# EAGLE library part M4-192T144 (library amd-mach)
AMD MACH SERIES
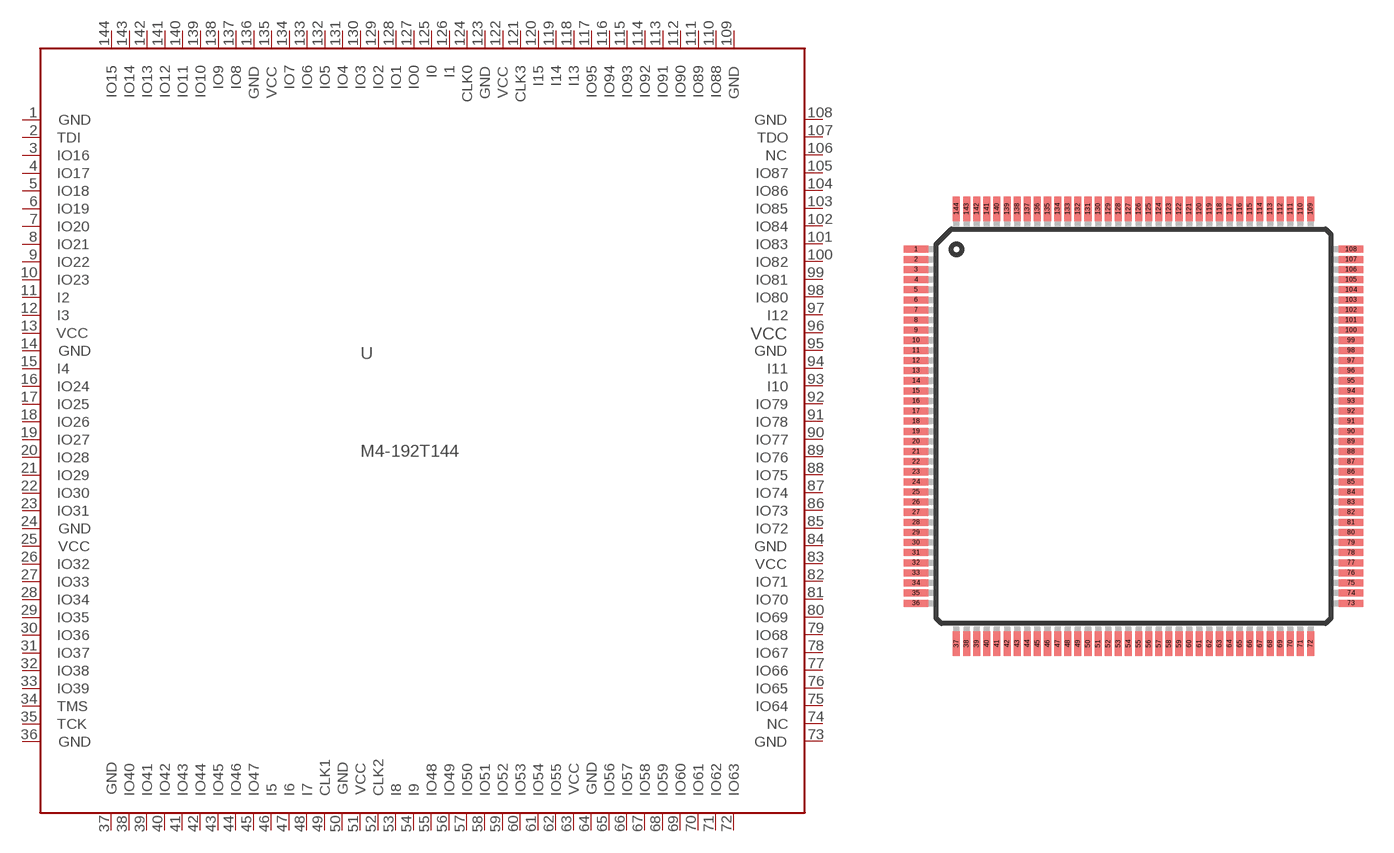
[diagram p6: symbol with the pads of TQFP144; footprint TQFP144]

Designator prefix U

## M4-192T144  [TQFP144]
1  GND  pwr
2  TDI  in
3  IO16
4  IO17
5  IO18
6  IO19
7  IO20
8  IO21
9  IO22
10  IO23
11  I2  in
12  I3  in
13  VCC  pwr
14  GND  pwr
15  I4  in
16  IO24
17  IO25
18  IO26
19  IO27
20  IO28
21  IO29
22  IO30
23  IO31
24  GND  pwr
25  VCC  pwr
26  IO32
27  IO33
28  IO34
29  IO35
30  IO36
31  IO37
32  IO38
33  IO39
34  TMS  in
35  TCK  in
36  GND  pwr
37  GND  pwr
38  IO40
39  IO41
40  IO42
41  IO43
42  IO44
43  IO45
44  IO46
45  IO47
46  I5  in
47  I6  in
48  I7  in
49  CLK1  in
50  GND  pwr
51  VCC  pwr
52  CLK2  in
53  I8  in
54  I9  in
55  IO48
56  IO49
57  IO50
58  IO51
59  IO52
60  IO53
61  IO54
62  IO55
63  VCC  pwr
64  GND  pwr
65  IO56
66  IO57
67  IO58
68  IO59
69  IO60
70  IO61
71  IO62
72  IO63
73  GND  pwr
74  NC  nc
75  IO64
76  IO65
77  IO66
78  IO67
79  IO68
80  IO69
81  IO70
82  IO71
83  VCC  pwr
84  GND  pwr
85  IO72
86  IO73
87  IO74
88  IO75
89  IO76
90  IO77
91  IO78
92  IO79
93  I10  in
94  I11  in
95  GND  pwr
96  VCC  pwr
97  I12  in
98  IO80
99  IO81
100  IO82
101  IO83
102  IO84
103  IO85
104  IO86
105  IO87
106  NC1  nc
107  TDO  out
108  GND  pwr
109  GND  pwr
110  IO88
111  IO89
112  IO90
113  IO91
114  IO92
115  IO93
116  IO94
117  IO95
118  I13  in
119  I14  in
120  I15  in
121  CLK3  in
122  VCC  pwr
123  GND  pwr
124  CLK0  in
125  I0  in
126  I1  in
127  IO0
128  IO1
129  IO2
130  IO3
131  IO4
132  IO5
133  IO6
134  IO7
135  VCC  pwr
136  GND  pwr
137  IO8
138  IO9
139  IO10
140  IO11
141  IO12
142  IO13
143  IO14
144  IO15

## Footprint TQFP144 (pad centres in mm)
THIN QUAD FLAT PACK
smd 1.2 x 0.35: 1 -10.75,8.75; 2 -10.75,8.25; 3 -10.75,7.75; 4 -10.75,7.25; 5 -10.75,6.75; 6 -10.75,6.25; 7 -10.75,5.75; 8 -10.75,5.25; 9 -10.75,4.75; 10 -10.75,4.25; 11 -10.75,3.75; 12 -10.75,3.25; 13 -10.75,2.75; 14 -10.75,2.25; 15 -10.75,1.75; 16 -10.75,1.25; 17 -10.75,0.75; 18 -10.75,0.25; 19 -10.75,-0.25; 20 -10.75,-0.75; 21 -10.75,-1.25; 22 -10.75,-1.75; 23 -10.75,-2.25; 24 -10.75,-2.75; 25 -10.75,-3.25; 26 -10.75,-3.75; 27 -10.75,-4.25; 28 -10.75,-4.75; 29 -10.75,-5.25; 30 -10.75,-5.75; 31 -10.75,-6.25; 32 -10.75,-6.75; 33 -10.75,-7.25; 34 -10.75,-7.75; 35 -10.75,-8.25; 36 -10.75,-8.75; 73 10.75,-8.75; 74 10.75,-8.25; 75 10.75,-7.75; 76 10.75,-7.25; 77 10.75,-6.75; 78 10.75,-6.25; 79 10.75,-5.75; 80 10.75,-5.25; 81 10.75,-4.75; 82 10.75,-4.25; 83 10.75,-3.75; 84 10.75,-3.25; 85 10.75,-2.75; 86 10.75,-2.25; 87 10.75,-1.75; 88 10.75,-1.25; 89 10.75,-0.75; 90 10.75,-0.25; 91 10.75,0.25; 92 10.75,0.75; 93 10.75,1.25; 94 10.75,1.75; 95 10.75,2.25; 96 10.75,2.75; 97 10.75,3.25; 98 10.75,3.75; 99 10.75,4.25; 100 10.75,4.75; 101 10.75,5.25; 102 10.75,5.75; 103 10.75,6.25; 104 10.75,6.75; 105 10.75,7.25; 106 10.75,7.75; 107 10.75,8.25; 108 10.75,8.75
smd 0.35 x 1.2: 37 -8.75,-10.75; 38 -8.25,-10.75; 39 -7.75,-10.75; 40 -7.25,-10.75; 41 -6.75,-10.75; 42 -6.25,-10.75; 43 -5.75,-10.75; 44 -5.25,-10.75; 45 -4.75,-10.75; 46 -4.25,-10.75; 47 -3.75,-10.75; 48 -3.25,-10.75; 49 -2.75,-10.75; 50 -2.25,-10.75; 51 -1.75,-10.75; 52 -1.25,-10.75; 53 -0.75,-10.75; 54 -0.25,-10.75; 55 0.25,-10.75; 56 0.75,-10.75; 57 1.25,-10.75; 58 1.75,-10.75; 59 2.25,-10.75; 60 2.75,-10.75; 61 3.25,-10.75; 62 3.75,-10.75; 63 4.25,-10.75; 64 4.75,-10.75; 65 5.25,-10.75; 66 5.75,-10.75; 67 6.25,-10.75; 68 6.75,-10.75; 69 7.25,-10.75; 70 7.75,-10.75; 71 8.25,-10.75; 72 8.75,-10.75; 109 8.75,10.75; 110 8.25,10.75; 111 7.75,10.75; 112 7.25,10.75; 113 6.75,10.75; 114 6.25,10.75; 115 5.75,10.75; 116 5.25,10.75; 117 4.75,10.75; 118 4.25,10.75; 119 3.75,10.75; 120 3.25,10.75; 121 2.75,10.75; 122 2.25,10.75; 123 1.75,10.75; 124 1.25,10.75; 125 0.75,10.75; 126 0.25,10.75; 127 -0.25,10.75; 128 -0.75,10.75; 129 -1.25,10.75; 130 -1.75,10.75; 131 -2.25,10.75; 132 -2.75,10.75; 133 -3.25,10.75; 134 -3.75,10.75; 135 -4.25,10.75; 136 -4.75,10.75; 137 -5.25,10.75; 138 -5.75,10.75; 139 -6.25,10.75; 140 -6.75,10.75; 141 -7.25,10.75; 142 -7.75,10.75; 143 -8.25,10.75; 144 -8.75,10.75